# EAGLE library part HEADER-3X08 (library Header and Connector)
HEADER - 3X08
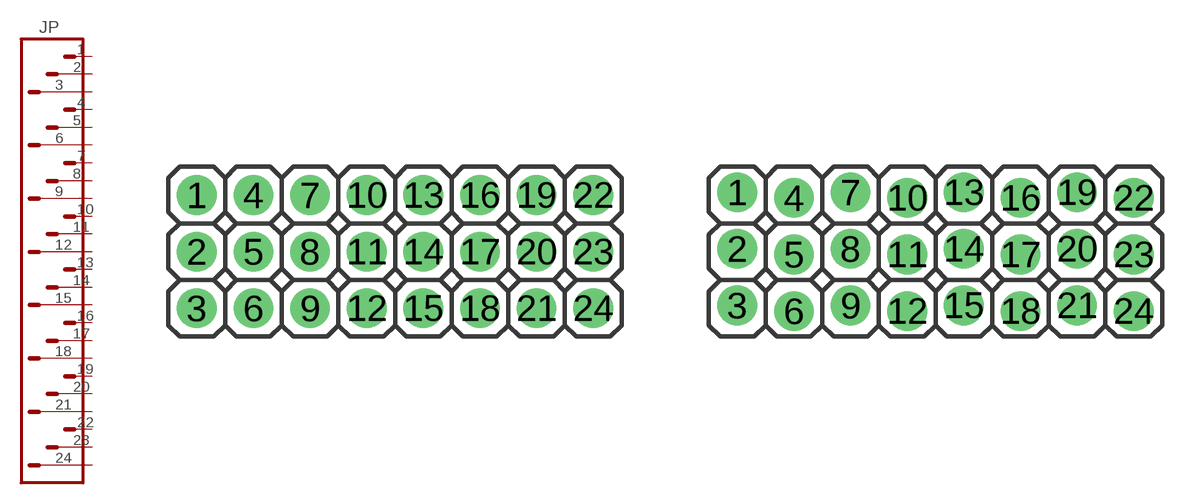
[diagram p27: symbol with the pads of HDR-M3X08; footprints HDR-M3X08, HDR-M3X08-LOCK]

Designator prefix JP

## HEADER-3X08 (DESC: MALE HEADER - 3X40 WAYS; VALUE: 8/40 WAYS)  [HDR-M3X08]
1  1  pas
2  2  pas
3  3  pas
4  4  pas
5  5  pas
6  6  pas
7  7  pas
8  8  pas
9  9  pas
10  10  pas
11  11  pas
12  12  pas
13  13  pas
14  14  pas
15  15  pas
16  16  pas
17  17  pas
18  18  pas
19  19  pas
20  20  pas
21  21  pas
22  22  pas
23  23  pas
24  24  pas

## HEADER-3X08LOCK (DESC: MALE HEADER - 3X40 WAYS; VALUE: 8/40 WAYS)  [HDR-M3X08-LOCK]
Pads as for HDR-M3X08

## Footprint HDR-M3X08 (pad centres in mm)
drill 1.016 pad 1.778: 1 0,0; 2 0,-2.54; 3 0,-5.08; 4 2.54,0; 5 2.54,-2.54; 6 2.54,-5.08; 7 5.08,0; 8 5.08,-2.54; 9 5.08,-5.08; 10 7.62,0; 11 7.62,-2.54; 12 7.62,-5.08; 13 10.16,0; 14 10.16,-2.54; 15 10.16,-5.08; 16 12.7,0; 17 12.7,-2.54; 18 12.7,-5.08; 19 15.24,0; 20 15.24,-2.54; 21 15.24,-5.08; 22 17.78,0; 23 17.78,-2.54; 24 17.78,-5.08

## Footprint HDR-M3X08-LOCK (pad centres in mm)
drill 1.016 pad 1.778: 1 0,0.127; 2 0,-2.413; 3 0,-4.953; 4 2.54,-0.127; 5 2.54,-2.667; 6 2.54,-5.207; 7 5.08,0.127; 8 5.08,-2.413; 9 5.08,-4.953; 10 7.62,-0.127; 11 7.62,-2.667; 12 7.62,-5.207; 13 10.16,0.127; 14 10.16,-2.413; 15 10.16,-4.953; 16 12.7,-0.127; 17 12.7,-2.667; 18 12.7,-5.207; 19 15.24,0.127; 20 15.24,-2.413; 21 15.24,-4.953; 22 17.78,-0.127; 23 17.78,-2.667; 24 17.78,-5.207